# EAGLE library part TRANSFORMATOR_WEISS (library 000_eigene_Bauteile)
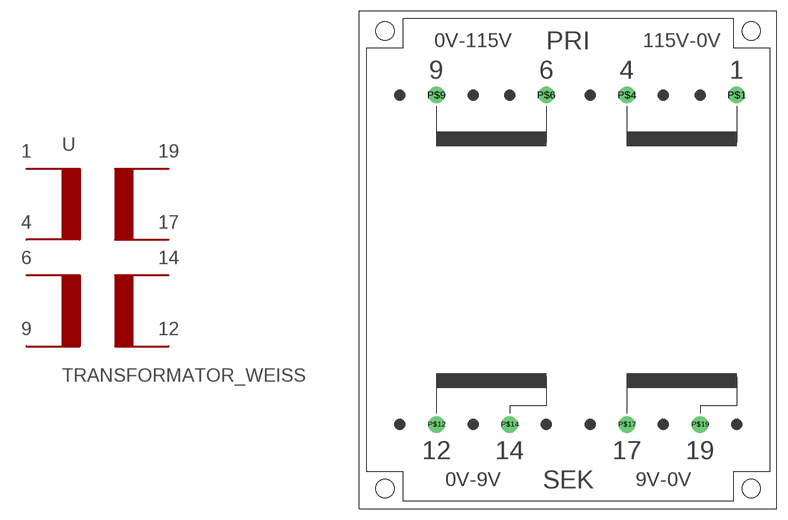
[diagram p6: symbol with the pads of UI39/21; footprint UI39/21]

Designator prefix -

## TRANSFORMATOR_WEISS  [UI39/21]
P$1  1
P$4  4
P$6  6
P$9  9
P$12  12
P$14  14
P$17  17
P$19  19

## Footprint UI39/21 (pad centres in mm)
drill 1.5: P$1 23,22.5; P$4 8,22.5; P$6 -3,22.5; P$9 -18,22.5; P$12 -18,-22.5; P$14 -8,-22.5; P$17 8,-22.5; P$19 18,-22.5
hole 2.5 at -25,31.25
hole 2.5 at 25,31.25
hole 2.5 at 25,-31.25
hole 2.5 at -25,-31.25